# EAGLE library part ESQT-110-03-X-D (library 000_ICS)
2mm X 2mm Double Row Through Hole Elevated Socket Strip
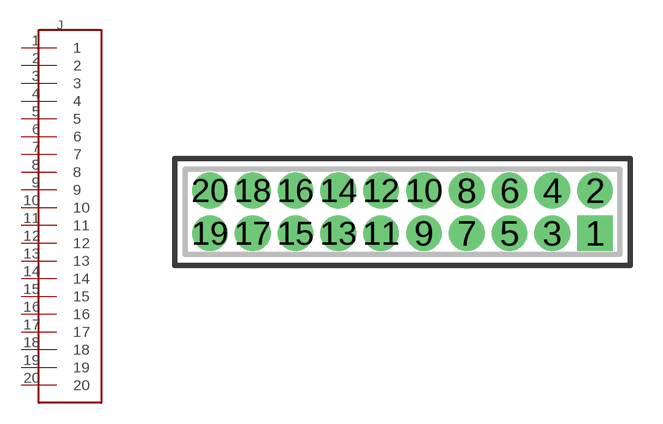
[diagram p1: symbol with the pads of ESQT-110-03-X-D; footprint ESQT-110-03-X-D]

Designator prefix J

## ESQT-110-03-X-D (1PC: 2.99; HEIGHT: 8.5; MFR: Samtec; MPN: ESQT-110-02-L-D-610)  [ESQT-110-03-X-D]
1  1
2  2
3  3
4  4
5  5
6  6
7  7
8  8
9  9
10  10
11  11
12  12
13  13
14  14
15  15
16  16
17  17
18  18
19  19
20  20

## Footprint ESQT-110-03-X-D (pad centres in mm)
2mm X 2mm Double Row Through Hole Elevated Socket Strip
drill 0.91 pad 1.672 square: 1 9,-1
drill 0.91 pad 1.672: 2 9,1; 3 7,-1; 4 7,1; 5 5,-1; 6 5,1; 7 3,-1; 8 3,1; 9 1,-1; 10 1,1; 11 -1,-1; 12 -1,1; 13 -3,-1; 14 -3,1; 15 -5,-1; 16 -5,1; 17 -7,-1; 18 -7,1; 19 -9,-1; 20 -9,1